# Altium schematic symbol library MA-505 16.SchLib: 1 symbol
Pins are listed as number, name and electrical type; pins without a type are passive.

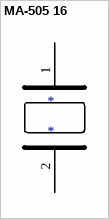
[diagram p0: symbol MA-505 16]

## MA-505 16
designator *
footprint DFN1110P1308X460-2N (DFN, 2-Leads, Body 4.40x13.08mm, Pitch 11.10mm, IPC Medium Density)
pins: 1 33, 2 32